# Altium footprint library GL3227E_GL-Flash_Ver0.11.PcbLib: 12 footprints
Each footprint in its own frame and in the unit in brackets; x right, y up, seen from the top. Pads: shape width x height; smd on the part's side, far side on the other; paste and mask are expansions set on the pad; w line width, h text height; cw(c..) or ccw(c..) is an arc to the next point about the centre after c.
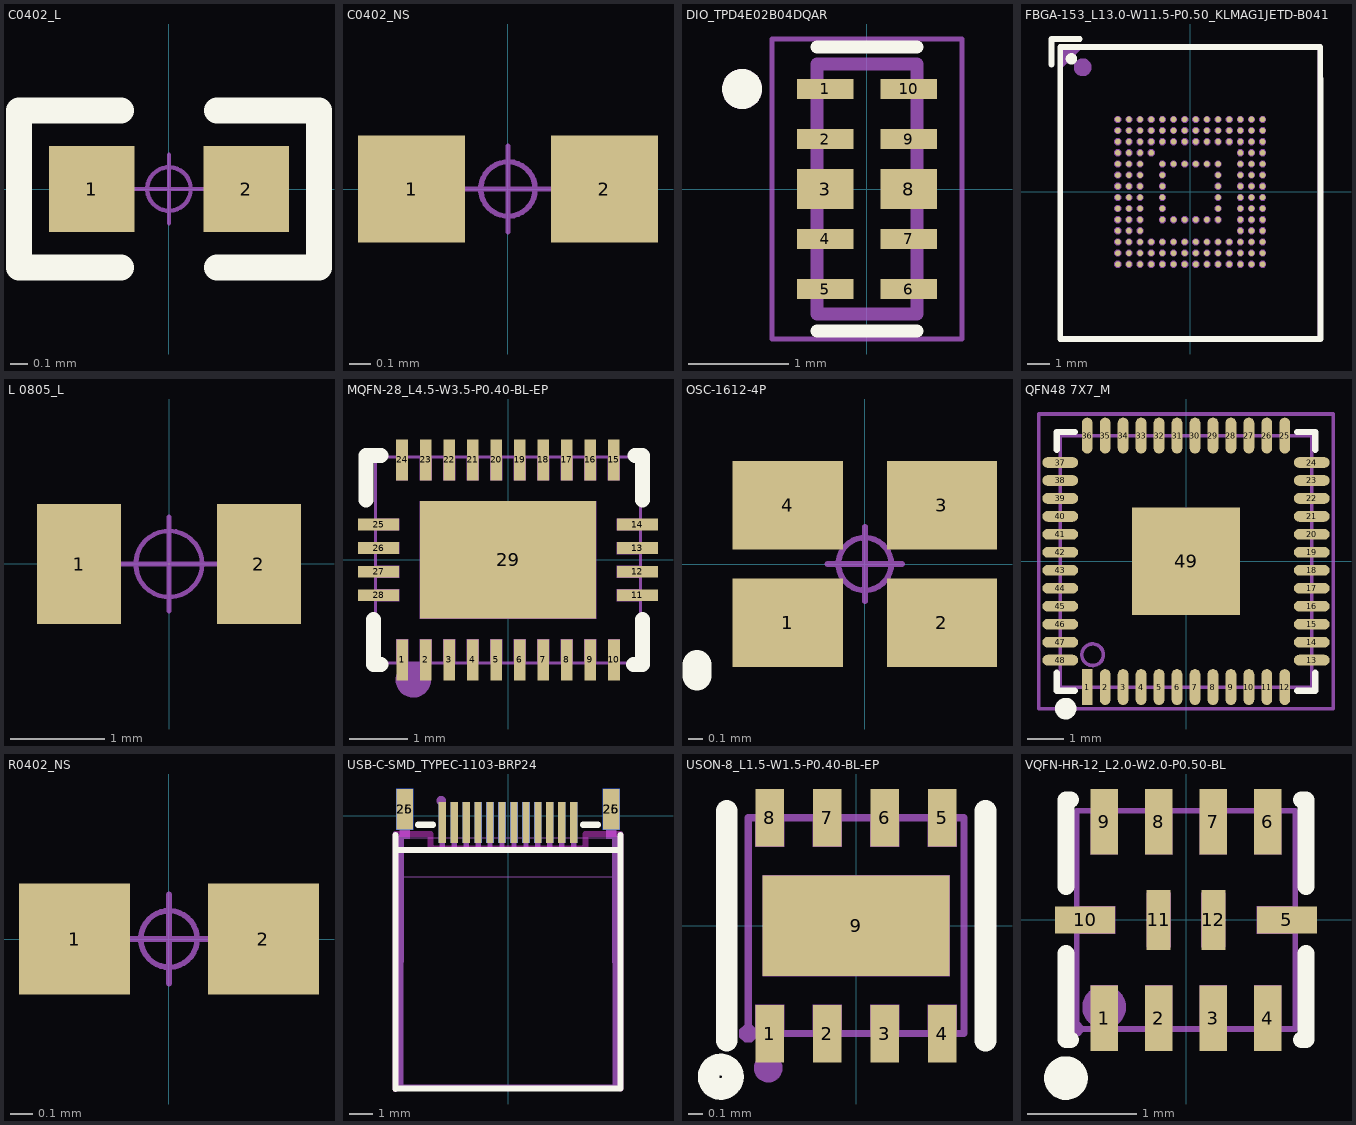
[diagram p0: the footprints below, top view; thin cyan lines are the x and y axes]

## C0402_L [mm] "贴片MLCC电容"
height 1.1
pads (2):
  rect 0.5x0.5 smd: 1(-0.45,0) 2(0.45,0)
Top Overlay:
  lines w0.152: -0.279,-0.457 -0.875,-0.457 -0.875,0.457 -0.279,0.457 ; 0.279,-0.457 0.875,-0.457 0.875,0.457 0.279,0.457
Mechanical 15:
  circle w0.025: c0,0 r0.127
  lines w0.025: -0.2,0 0.2,0 ; 0,-0.2 0,0.2
3D body "C0402-B-2S.stp": height 0.5, standoff 0, extent -0.5,-0.25 0.5,0.25

## C0402_NS [mm] "贴片MLCC电容-无丝印             联系卖家 免费查找封装"
pads (2):
  rect 0.5x0.5 smd: 1(-0.45,0) 2(0.45,0)
Mechanical 15:
  circle w0.025: c0,0 r0.127
  lines w0.025: -0.2,0 0.2,0 ; 0,-0.2 0,0.2
3D body "C0402-B-2S.stp": height 0.5, standoff 0, extent -0.5,-0.25 0.5,0.25

## DIO_TPD4E02B04DQAR [mm]
height 1.1
pads (10):
  rect 0.565x0.2 smd: 1(-0.417,1) 2(-0.417,0.5) 4(-0.417,-0.5) 5(-0.417,-1) 6(0.417,-1) 7(0.417,-0.5) 9(0.417,0.5) 10(0.417,1)
  rect 0.565x0.4 smd paste-1: 3(-0.417,0) 8(0.417,0)
Top Overlay:
  circle w0.2: c-1.25,1 r0.1
  lines w0.127: -0.5,-1.42 0.5,-1.42 ; -0.5,1.42 0.5,1.42
Top Paste:
  region: -0.135,-0.18 -0.7,-0.18 -0.7,0.18 -0.135,0.18
  region: 0.7,-0.18 0.135,-0.18 0.135,0.18 0.7,0.18
Top Solder:
  region: -0.065,-1.17 -0.77,-1.17 -0.77,-0.83 -0.065,-0.83
  region: -0.065,-0.27 -0.77,-0.27 -0.77,0.27 -0.065,0.27
  region: -0.065,-0.67 -0.77,-0.67 -0.77,-0.33 -0.065,-0.33
  region: -0.065,0.33 -0.77,0.33 -0.77,0.67 -0.065,0.67
  region: -0.065,0.83 -0.77,0.83 -0.77,1.17 -0.065,1.17
  region: 0.77,-0.67 0.065,-0.67 0.065,-0.33 0.77,-0.33
  region: 0.77,-1.17 0.065,-1.17 0.065,-0.83 0.77,-0.83
  region: 0.77,0.83 0.065,0.83 0.065,1.17 0.77,1.17
  region: 0.77,-0.27 0.065,-0.27 0.065,0.27 0.77,0.27
  region: 0.77,0.33 0.065,0.33 0.065,0.67 0.77,0.67
Mechanical 13:
  circle w0.2: c-1.25,1 r0.1
  lines w0.127: -0.5,-1.25 0.5,-1.25 0.5,1.25 -0.5,1.25 -0.5,-1.25
Mechanical 15:
  lines w0.05: -0.95,-1.5 -0.95,1.5 0.95,1.5 0.95,-1.5 -0.95,-1.5
3D body "step_temp.STEP": height 0.55, standoff 0, extent -0.5,-1.25 0.5,1.25

## FBGA-153_L13.0-W11.5-P0.50_KLMAG1JETD-B041 [mm]
pads (153):
  round 0.25 smd paste-100: A1(-3.25,3.25) A2(-2.75,3.25) A3(-2.25,3.25) A4(-1.75,3.25) A5(-1.25,3.25) A6(-0.75,3.25) A7(-0.25,3.25) A8(0.25,3.25) A9(0.75,3.25) A10(1.25,3.25) A11(1.75,3.25) A12(2.25,3.25) A13(2.75,3.25) A14(3.25,3.25) B1(-3.25,2.75) B2(-2.75,2.75) B3(-2.25,2.75) B4(-1.75,2.75) B5(-1.25,2.75) B6(-0.75,2.75) B7(-0.25,2.75) B8(0.25,2.75) B9(0.75,2.75) B10(1.25,2.75) B11(1.75,2.75) B12(2.25,2.75) B13(2.75,2.75) B14(3.25,2.75) C1(-3.25,2.25) C2(-2.75,2.25) C3(-2.25,2.25) C4(-1.75,2.25) C5(-1.25,2.25) C6(-0.75,2.25) C7(-0.25,2.25) C8(0.25,2.25) C9(0.75,2.25) C10(1.25,2.25) C11(1.75,2.25) C12(2.25,2.25) C13(2.75,2.25) C14(3.25,2.25) D1(-3.25,1.75) D2(-2.75,1.75) D3(-2.25,1.75) D4(-1.75,1.75) D12(2.25,1.75) D13(2.75,1.75) D14(3.25,1.75) E1(-3.25,1.25) E2(-2.75,1.25) E3(-2.25,1.25) E5(-1.25,1.25) E6(-0.75,1.25) E7(-0.25,1.25) E8(0.25,1.25) E9(0.75,1.25) E10(1.25,1.25) E12(2.25,1.25) E13(2.75,1.25) E14(3.25,1.25) F1(-3.25,0.75) F2(-2.75,0.75) F3(-2.25,0.75) F5(-1.25,0.75) F10(1.25,0.75) F12(2.25,0.75) F13(2.75,0.75) F14(3.25,0.75) G1(-3.25,0.25) G2(-2.75,0.25) G3(-2.25,0.25) G5(-1.25,0.25) G10(1.25,0.25) G12(2.25,0.25) G13(2.75,0.25) G14(3.25,0.25) H1(-3.25,-0.25) H2(-2.75,-0.25) H3(-2.25,-0.25) H5(-1.25,-0.25) H10(1.25,-0.25) H12(2.25,-0.25) H13(2.75,-0.25) H14(3.25,-0.25) J1(-3.25,-0.75) J2(-2.75,-0.75) J3(-2.25,-0.75) J5(-1.25,-0.75) J10(1.25,-0.75) J12(2.25,-0.75) J13(2.75,-0.75) J14(3.25,-0.75) K1(-3.25,-1.25) K2(-2.75,-1.25) K3(-2.25,-1.25) K5(-1.25,-1.25) K6(-0.75,-1.25) K7(-0.25,-1.25) K8(0.25,-1.25) K9(0.75,-1.25) K10(1.25,-1.25) K12(2.25,-1.25) K13(2.75,-1.25) K14(3.25,-1.25) L1(-3.25,-1.75) L2(-2.75,-1.75) L3(-2.25,-1.75) L12(2.25,-1.75) L13(2.75,-1.75) L14(3.25,-1.75) M1(-3.25,-2.25) M2(-2.75,-2.25) M3(-2.25,-2.25) M4(-1.75,-2.25) M5(-1.25,-2.25) M6(-0.75,-2.25) M7(-0.25,-2.25) M8(0.25,-2.25) M9(0.75,-2.25) M10(1.25,-2.25) M11(1.75,-2.25) M12(2.25,-2.25) M13(2.75,-2.25) M14(3.25,-2.25) N1(-3.25,-2.75) N2(-2.75,-2.75) N3(-2.25,-2.75) N4(-1.75,-2.75) N5(-1.25,-2.75) N6(-0.75,-2.75) N7(-0.25,-2.75) N8(0.25,-2.75) N9(0.75,-2.75) N10(1.25,-2.75) N11(1.75,-2.75) N12(2.25,-2.75) N13(2.75,-2.75) N14(3.25,-2.75) P1(-3.25,-3.25) P2(-2.75,-3.25) P3(-2.25,-3.25) P4(-1.75,-3.25) P5(-1.25,-3.25) P6(-0.75,-3.25) P7(-0.25,-3.25) P8(0.25,-3.25) P9(0.75,-3.25) P10(1.25,-3.25) P11(1.75,-3.25) P12(2.25,-3.25) P13(2.75,-3.25) P14(3.25,-3.25)
Top Overlay:
  circle w0.254: c-5.334,5.969 r0.127
  lines w0.254: -6.223,5.715 -6.223,6.858 -4.953,6.858 ; -5.841,-6.605 5.843,-6.605 5.843,5.079 ; -5.841,-6.5 -5.841,6.5 5.842,6.5 5.842,5.079
Top Paste:
  drawing of 153 lines, arcs and shapes, not listed
Mechanical 4:
  circle w0.4: c-4.826,5.588 r0.2
  region: -4.826,6.477 -5.715,6.477 -5.715,5.588
Mechanical 7:
  lines w0.051: -5.75,-6.5 -5.75,6.5 5.75,6.5 5.75,-6.5 -5.75,-6.5
Mechanical 9:
  region: -5.69,6.5 -5.69,6.475 -5.725,6.44 -5.775,6.44 -5.81,6.475 -5.81,6.5 -5.81,6.525 -5.775,6.56 -5.725,6.56 -5.69,6.525 -5.69,6.5
Mechanical 10:
  drawing of 153 lines, arcs and shapes, not listed
3D body "未命名-EasyEDA PCB Model~65jqU2~FBGA-153_L13.0-W11.5-P0.50_KLMAG1JETD-B041~FBGA-153_L13.0-W11.5-H1.1-P0.50_KLMAG1JETD-B041~oDns.step": height 1.07, standoff -0.04, extent -5.75,-6.5 5.75,6.5

## L 0805_L [mil] "小功率贴片电感"
height 19.68
pads (2):
  rect 35x50 smd: 1(-37.4,0) 2(37.4,0)
Mechanical 15:
  circle w1.97: c0,0 r13.78
  circle w1.97: c0,0 r13.78
  lines w1.97: -19.68,0 19.68,0 -19.68,0 ; 0,-19.68 0,19.68 0,-19.68
3D body "0805.STEP": height 35.43, standoff -0.11, extent -39.37,-23.62 39.37,23.62

## MQFN-28_L4.5-W3.5-P0.40-BL-EP [mm]
pads (29):
  rect 0.2x0.7 smd paste-100: 1(-1.8,-1.7) 2(-1.4,-1.7) 3(-1,-1.7) 4(-0.6,-1.7) 5(-0.2,-1.7) 6(0.2,-1.7) 7(0.6,-1.7) 8(1,-1.7) 9(1.4,-1.7) 10(1.8,-1.7) 15(1.8,1.7) 16(1.4,1.7) 17(1,1.7) 18(0.6,1.7) 19(0.2,1.7) 20(-0.2,1.7) 21(-0.6,1.7) 22(-1,1.7) 23(-1.4,1.7) 24(-1.8,1.7)
  rect 0.7x0.2 smd paste-100: 11(2.2,-0.6) 12(2.2,-0.2) 13(2.2,0.2) 14(2.2,0.6) 25(-2.2,0.6) 26(-2.2,0.2) 27(-2.2,-0.2) 28(-2.2,-0.6)
  rect 3x2 smd paste-100: 29(0,0)
Top Overlay:
  lines w0.254: -2.413,1.016 -2.413,1.778 -2.159,1.778 ; -2.286,-1.016 -2.286,-1.778 -2.159,-1.778 ; 2.131,-1.778 2.286,-1.778 2.286,-1.016 ; 2.159,1.778 2.286,1.778 2.286,1.016
Top Paste:
  region: 1.9,1.35 1.9,2.05 1.7,2.05 1.7,1.35
  region: -0.9,1.35 -0.9,2.05 -1.1,2.05 -1.1,1.35
  region: -0.7,2.05 -0.7,1.35 -0.5,1.35 -0.5,2.05
  region: -1.5,2.05 -1.5,1.35 -1.3,1.35 -1.3,2.05
  region: 1.5,1.35 1.5,2.05 1.3,2.05 1.3,1.35
  region: 1.1,1.35 1.1,2.05 0.9,2.05 0.9,1.35
  region: 0.7,1.35 0.7,2.05 0.5,2.05 0.5,1.35
  region: -0.3,2.05 -0.3,1.35 -0.1,1.35 -0.1,2.05
  region: 0.3,1.35 0.3,2.05 0.1,2.05 0.1,1.35
  region: -1.9,2.05 -1.9,1.35 -1.7,1.35 -1.7,2.05
  region: 1.85,0.7 1.85,0.5 2.55,0.5 2.55,0.7
  region: -1.85,0.5 -1.85,0.7 -2.55,0.7 -2.55,0.5
  region: 1.85,0.3 1.85,0.1 2.55,0.1 2.55,0.3
  region: -1.85,0.1 -1.85,0.3 -2.55,0.3 -2.55,0.1
  region: 1.85,-0.1 1.85,-0.3 2.55,-0.3 2.55,-0.1
  region: -1.85,-0.3 -1.85,-0.1 -2.55,-0.1 -2.55,-0.3
  region: 2.55,-0.7 2.55,-0.5 1.85,-0.5 1.85,-0.7
  region: -1.85,-0.7 -1.85,-0.5 -2.55,-0.5 -2.55,-0.7
  region: 1.7,-1.35 1.7,-2.05 1.9,-2.05 1.9,-1.35
  region: 1.3,-1.35 1.3,-2.05 1.5,-2.05 1.5,-1.35
  region: 0.9,-1.35 0.9,-2.05 1.1,-2.05 1.1,-1.35
  region: -1.7,-2.05 -1.7,-1.35 -1.9,-1.35 -1.9,-2.05
  region: 0.5,-1.35 0.5,-2.05 0.7,-2.05 0.7,-1.35
  region: -1.3,-2.05 -1.3,-1.35 -1.5,-1.35 -1.5,-2.05
  region: -0.9,-2.05 -0.9,-1.35 -1.1,-1.35 -1.1,-2.05
  region: -0.5,-2.05 -0.5,-1.35 -0.7,-1.35 -0.7,-2.05
  region: 0.1,-1.35 0.1,-2.05 0.3,-2.05 0.3,-1.35
  region: -0.1,-2.05 -0.1,-1.35 -0.3,-1.35 -0.3,-2.05
  region: -1.2,0.8 1.2,0.8 1.2,-0.8 -1.2,-0.8
Mechanical 6:
  circle w0.3: c-1.61,-2.04 r0.15
Mechanical 15:
  drawing of 34 lines, arcs and shapes, not listed
3D body "U2~MQFN-28_L4.5-W3.5-P0.40-BL-EP~MQFN-28_L4.5-W3.5-P0.40-BL-EP~aweX.STEP": height 0.86, standoff 0, extent -2.26,-1.76 2.26,1.76

## OSC-1612-4P [mm] "1.6*1.2*0.35mm（长宽高）"
pads (4):
  rect 0.75x0.6 smd: 1(-0.525,-0.4) 2(0.525,-0.4) 3(0.525,0.4) 4(-0.525,0.4)
Top Overlay:
  lines w0.2: -1.143,-0.762 -1.143,-0.686
Mechanical 15:
  circle w0.04: c0,0 r0.18
  lines w0.04: -0.254,0 0.254,0 ; 0,-0.254 0,0.254
3D body "OSC_1612-4.STEP": height 0.35, standoff -0.02, extent -0.8,-0.6 0.8,0.6

## QFN48 7X7_M [mm] "48脚，长x宽x高：7x7x1mm，脚距：0.5mm"
pads (49):
  rect 0.3x1 smd: 1(-2.75,-3.5)
  oval 0.3x1 smd: 2(-2.25,-3.5) 3(-1.75,-3.5) 4(-1.25,-3.5) 5(-0.75,-3.5) 6(-0.25,-3.5) 7(0.25,-3.5) 8(0.75,-3.5) 9(1.25,-3.5) 10(1.75,-3.5) 11(2.25,-3.5) 12(2.75,-3.5) 25(2.75,3.5) 26(2.25,3.5) 27(1.75,3.5) 28(1.25,3.5) 29(0.75,3.5) 30(0.25,3.5) 31(-0.25,3.5) 32(-0.75,3.5) 33(-1.25,3.5) 34(-1.75,3.5) 35(-2.25,3.5) 36(-2.75,3.5)
  oval 1x0.3 smd: 13(3.5,-2.75) 14(3.5,-2.25) 15(3.5,-1.75) 16(3.5,-1.25) 17(3.5,-0.75) 18(3.5,-0.25) 19(3.5,0.25) 20(3.5,0.75) 21(3.5,1.25) 22(3.5,1.75) 23(3.5,2.25) 24(3.5,2.75) 37(-3.5,2.75) 38(-3.5,2.25) 39(-3.5,1.75) 40(-3.5,1.25) 41(-3.5,0.75) 42(-3.5,0.25) 43(-3.5,-0.25) 44(-3.5,-0.75) 45(-3.5,-1.25) 46(-3.5,-1.75) 47(-3.5,-2.25) 48(-3.5,-2.75)
  rect 3x3 smd: 49(0,0)
Top Overlay:
  circle w0.3: c-3.35,-4.1 r0.15
  lines w0.178: -3.6,-3.1 -3.6,-3.6 -3.1,-3.6 ; -3.6,3.1 -3.6,3.6 -3.1,3.6 ; 3.1,-3.6 3.6,-3.6 3.6,-3.1 ; 3.1,3.6 3.6,3.6 3.6,3.1
Mechanical 13:
  circle w0.1: c-2.6,-2.6 r0.3
  lines w0.1: -3.5,-3.5 3.5,-3.5 3.5,3.5 -3.5,3.5 -3.5,-3.5
Mechanical 15:
  circle w0.05: c0,0 r0.35
  lines w0.05: -0.5,0 0.5,0 ; 0,-0.5 0,0.5
  lines w0.1: -4.1,-4.1 -4.1,4.1 4.1,4.1 4.1,-4.1 -4.1,-4.1
3D body "QFN48-7X7.STEP": height 0.95, standoff -0.05, extent -3.51,-3.51 3.51,3.51

## R0402_NS [mm] "1/16W贴片电阻-无丝印"
pads (2):
  rect 0.5x0.5 smd: 1(-0.425,0) 2(0.425,0)
Mechanical 15:
  circle w0.025: c0,0 r0.127
  lines w0.025: -0.2,0 0.2,0 ; 0,-0.2 0,0.2
3D body "R0402.STEP": height 0.3, standoff 0, extent -0.5,-0.25 0.5,0.25

## USB-C-SMD_TYPEC-1103-BRP24 [mm]
pads (28):
  rect 0.7x1.7 smd paste+0: 25(-4.32,0.275) 25(4.32,0.275)
  rect 0.7x1.7 smd far side paste+0: 26(-4.32,0.275) 26(4.32,0.275)
  rect 0.3x1.7 smd paste+0: A1(-2.75,-0.275) A2(-2.25,-0.275) A3(-1.75,-0.275) A4(-1.25,-0.275) A5(-0.75,-0.275) A6(-0.25,-0.275) A7(0.25,-0.275) A8(0.75,-0.275) A9(1.25,-0.275) A10(1.75,-0.275) A11(2.25,-0.275) A12(2.75,-0.275)
  rect 0.3x1.7 smd far side paste+0: B1(2.75,-0.275) B2(2.25,-0.275) B3(1.75,-0.275) B4(1.25,-0.275) B5(0.75,-0.275) B6(0.25,-0.275) B7(-0.25,-0.275) B8(-0.75,-0.275) B9(-1.25,-0.275) B10(-1.75,-0.275) B11(-2.25,-0.275) B12(-2.75,-0.275)
Top Overlay:
  lines w0.254: -4.7,-11.425 -4.7,-1.425 ; -4.7,-11.407 4.7,-11.407 4.7,-1.425 ; -4.7,-0.804 -4.7,-1.425 ; -3.76,-0.371 -3.131,-0.371 ; 3.131,-0.371 3.76,-0.371 ; 4.7,-0.804 4.7,-1.425 ; -4.7,-1.425 -4.17,-1.425 4.17,-1.425 4.7,-1.425
Keep-Out Layer:
  lines w0.254: -4.7,-0.758 -3.25,-0.758 ; -4.7,-0.758 -4.7,-11.421 -4.7,-0.758 ; -4.7,-0.758 -3.25,-0.758 ; -3.25,-1.358 3.25,-1.358 ; -3.25,-1.358 -3.25,-0.758 ; -3.25,-1.358 3.25,-1.358 ; -3.25,-1.358 -3.25,-0.758 ; 3.25,-1.358 3.25,-0.758 ; 3.25,-1.358 3.25,-0.758 ; 3.25,-0.758 4.7,-0.758 ; 3.25,-0.758 4.7,-0.758 ; 4.7,-0.758 4.7,-11.412 4.7,-0.758
Mechanical 4:
  circle w0.2: c-2.794,0.635 r0.1
  lines w0.254: -4.478,-0.916 -4.491,-11.366 4.5,-11.366 4.487,-0.926
Mechanical 7:
  lines w0.051: -4.47,-0.904 4.47,-0.904 4.51,-2.538 -4.467,-2.544 -4.47,-0.904
Mechanical 9:
  region: -4.41,-11.354 -4.41,-11.379 -4.445,-11.414 -4.495,-11.414 -4.53,-11.379 -4.53,-11.354 -4.53,-11.329 -4.495,-11.294 -4.445,-11.294 -4.41,-11.329 -4.41,-11.354
Mechanical 10:
  region: -4.12,-0.956 -4.52,-0.956 -4.52,0.744 -4.12,0.744
  region: 4.52,-0.956 4.12,-0.956 4.12,0.744 4.52,0.744
  region: -2.65,-1.354 -2.85,-1.354 -2.85,0.346 -2.65,0.346
  region: -2.15,-1.354 -2.35,-1.354 -2.35,0.346 -2.15,0.346
  region: -1.65,-1.354 -1.85,-1.354 -1.85,0.346 -1.65,0.346
  region: -1.15,-1.354 -1.35,-1.354 -1.35,0.346 -1.15,0.346
  region: -0.65,-1.354 -0.85,-1.354 -0.85,0.346 -0.65,0.346
  region: 0.35,-1.354 0.15,-1.354 0.15,0.346 0.35,0.346
  region: 0.85,-1.354 0.65,-1.354 0.65,0.346 0.85,0.346
  region: -0.15,-1.354 -0.35,-1.354 -0.35,0.346 -0.15,0.346
  region: 1.35,-1.354 1.15,-1.354 1.15,0.346 1.35,0.346
  region: 1.85,-1.354 1.65,-1.354 1.65,0.346 1.85,0.346
  region: 2.35,-1.354 2.15,-1.354 2.15,0.346 2.35,0.346
  region: 2.85,-1.354 2.65,-1.354 2.65,0.346 2.85,0.346
  region: 2.85,-1.354 2.65,-1.354 2.65,0.346 2.85,0.346
  region: 2.35,-1.354 2.15,-1.354 2.15,0.346 2.35,0.346
  region: 1.85,-1.354 1.65,-1.354 1.65,0.346 1.85,0.346
  region: 1.35,-1.354 1.15,-1.354 1.15,0.346 1.35,0.346
  region: -0.15,-1.354 -0.35,-1.354 -0.35,0.346 -0.15,0.346
  region: 0.85,-1.354 0.65,-1.354 0.65,0.346 0.85,0.346
  region: 0.35,-1.354 0.15,-1.354 0.15,0.346 0.35,0.346
  region: -0.65,-1.354 -0.85,-1.354 -0.85,0.346 -0.65,0.346
  region: -1.15,-1.354 -1.35,-1.354 -1.35,0.346 -1.15,0.346
  region: -1.65,-1.354 -1.85,-1.354 -1.85,0.346 -1.65,0.346
  region: -2.15,-1.354 -2.35,-1.354 -2.35,0.346 -2.15,0.346
  region: -2.65,-1.354 -2.85,-1.354 -2.85,0.346 -2.65,0.346
  region: 4.52,-0.956 4.12,-0.956 4.12,0.744 4.52,0.744
  region: -4.12,-0.956 -4.52,-0.956 -4.52,0.744 -4.12,0.744
3D body "未命名-EasyEDA PCB Model~65jqU2~FBGA-153_L13.0-W11.5-P0.50_KLMAG1JETD-B041~FBGA-153_L13.0-W11.5-H1.1-P0.50_KLMAG1JETD-B041~oDns.step": height 1.45, standoff -1.71, extent -4.45,-11.181 4.49,0.969

## USON-8_L1.5-W1.5-P0.40-BL-EP [mm]
pads (9):
  rect 0.2x0.4 smd: 1(-0.6,-0.75) 2(-0.2,-0.75) 3(0.2,-0.75) 4(0.6,-0.75) 5(0.6,0.75) 6(0.2,0.75) 7(-0.2,0.75) 8(-0.6,0.75)
  rect 1.3x0.7 smd: 9(0,0)
Top Overlay:
  circle w0.15: c-0.94,-1.05 r0.085
  lines w0.15: -0.9,-0.8 -0.9,0.8 ; 0.9,-0.8 0.9,0.8
Mechanical 6:
  circle w0.1: c-0.61,-0.99 r0.05
Mechanical 15:
  region: -0.69,-0.75 -0.69,-0.775 -0.725,-0.81 -0.775,-0.81 -0.81,-0.775 -0.81,-0.75 -0.81,-0.725 -0.775,-0.69 -0.725,-0.69 -0.69,-0.725 -0.69,-0.75
  region: -0.65,-0.35 -0.65,0.35 0.65,0.35 0.65,-0.35
  region: -0.7,0.75 -0.5,0.75 -0.5,0.55 -0.7,0.55
  region: -0.3,0.75 -0.1,0.75 -0.1,0.55 -0.3,0.55
  region: 0.1,0.75 0.3,0.75 0.3,0.55 0.1,0.55
  region: 0.5,0.75 0.7,0.75 0.7,0.55 0.5,0.55
  region: 0.5,-0.55 0.7,-0.55 0.7,-0.75 0.5,-0.75
  region: 0.1,-0.55 0.3,-0.55 0.3,-0.75 0.1,-0.75
  region: -0.3,-0.55 -0.1,-0.55 -0.1,-0.75 -0.3,-0.75
  region: -0.7,-0.55 -0.5,-0.55 -0.5,-0.75 -0.7,-0.75
  lines w0.051: -0.75,-0.75 -0.75,0.75 0.75,0.75 0.75,-0.75 -0.75,-0.75
3D body "U1~USON-8_L1.5-W1.5-P0.40-BL-EP~USON-8_L1.5-W1.5-H0.5-P0.40-BL-EP~aweX.STEP": height 0.5, standoff 0, extent -0.75,-0.76 0.75,0.76

## VQFN-HR-12_L2.0-W2.0-P0.50-BL [mm]
pads (12):
  rect 0.25x0.6 smd paste+0.051: 1(-0.75,-0.9) 2(-0.25,-0.9) 3(0.25,-0.9) 4(0.75,-0.9) 6(0.75,0.9) 7(0.25,0.9) 8(-0.25,0.9) 9(-0.75,0.9)
  rect 0.55x0.25 smd paste+0.051: 5(0.925,0) 10(-0.925,0)
  rect 0.22x0.55 smd paste+0.051: 11(-0.25,0) 12(0.25,0)
Top Overlay:
  circle w0.2: c-1.1,-1.45 r0.1
  lines w0.152: -1.1,-0.305 -1.1,-1.1 -1.055,-1.1 ; -1.1,0.305 -1.1,1.05 -1.1,1.1 -1.055,1.1 ; 1.055,-1.1 1.1,-1.1 1.1,-0.305 ; 1.055,1.1 1.1,1.1 1.1,1 1.1,0.305
Mechanical 4:
  circle w0.2: c-0.75,-0.8 r0.1
Mechanical 7:
  lines w0.051: -1,-1 -1,1 1,1 1,-1 -1,-1
Mechanical 9:
  region: -0.94,-1 -0.94,-1.025 -0.975,-1.06 -1.025,-1.06 -1.06,-1.025 -1.06,-1 -1.06,-0.975 -1.025,-0.94 -0.975,-0.94 -0.94,-0.975 -0.94,-1
Mechanical 10:
  region: -0.875,1 -0.625,1 -0.625,0.6 -0.875,0.6
  region: -0.375,1 -0.125,1 -0.125,0.6 -0.375,0.6
  region: 0.125,1 0.375,1 0.375,0.6 0.125,0.6
  region: 0.625,1 0.875,1 0.875,0.6 0.625,0.6
  region: 0.875,-1 0.625,-1 0.625,-0.6 0.875,-0.6
  region: 0.375,-1 0.125,-1 0.125,-0.6 0.375,-0.6
  region: -0.125,-1 -0.375,-1 -0.375,-0.6 -0.125,-0.6
  region: -0.625,-1 -0.875,-1 -0.875,-0.6 -0.625,-0.6
  region: 0.65,-0.125 0.65,0.125 1,0.125 1,-0.125
  region: -0.65,0.125 -0.65,-0.125 -1,-0.125 -1,0.125
  region: 0.36,-0.25 0.14,-0.25 0.14,0.25 0.36,0.25
  region: -0.14,-0.25 -0.36,-0.25 -0.36,0.25 -0.14,0.25
3D body "未命名-EasyEDA PCB Model~5V8mVQFN-HR-12_L2.0-W2.0-P0.50-BL~VQFN-HR-12_L2.0-W2.0-H0.9-P0.50-BL~MANT.step": height 0.9, standoff 0, extent -1,-1 1,1